# Altium footprint library CONN_TBLOCK_7P62.PcbLib: 76 footprints (part 2 of 5)
Each footprint in its own frame and in the unit in brackets; x right, y up, seen from the top. Pads: shape width x height; smd on the part's side, far side on the other; paste and mask are expansions set on the pad; w line width, h text height; cw(c..) or ccw(c..) is an arc to the next point about the centre after c.
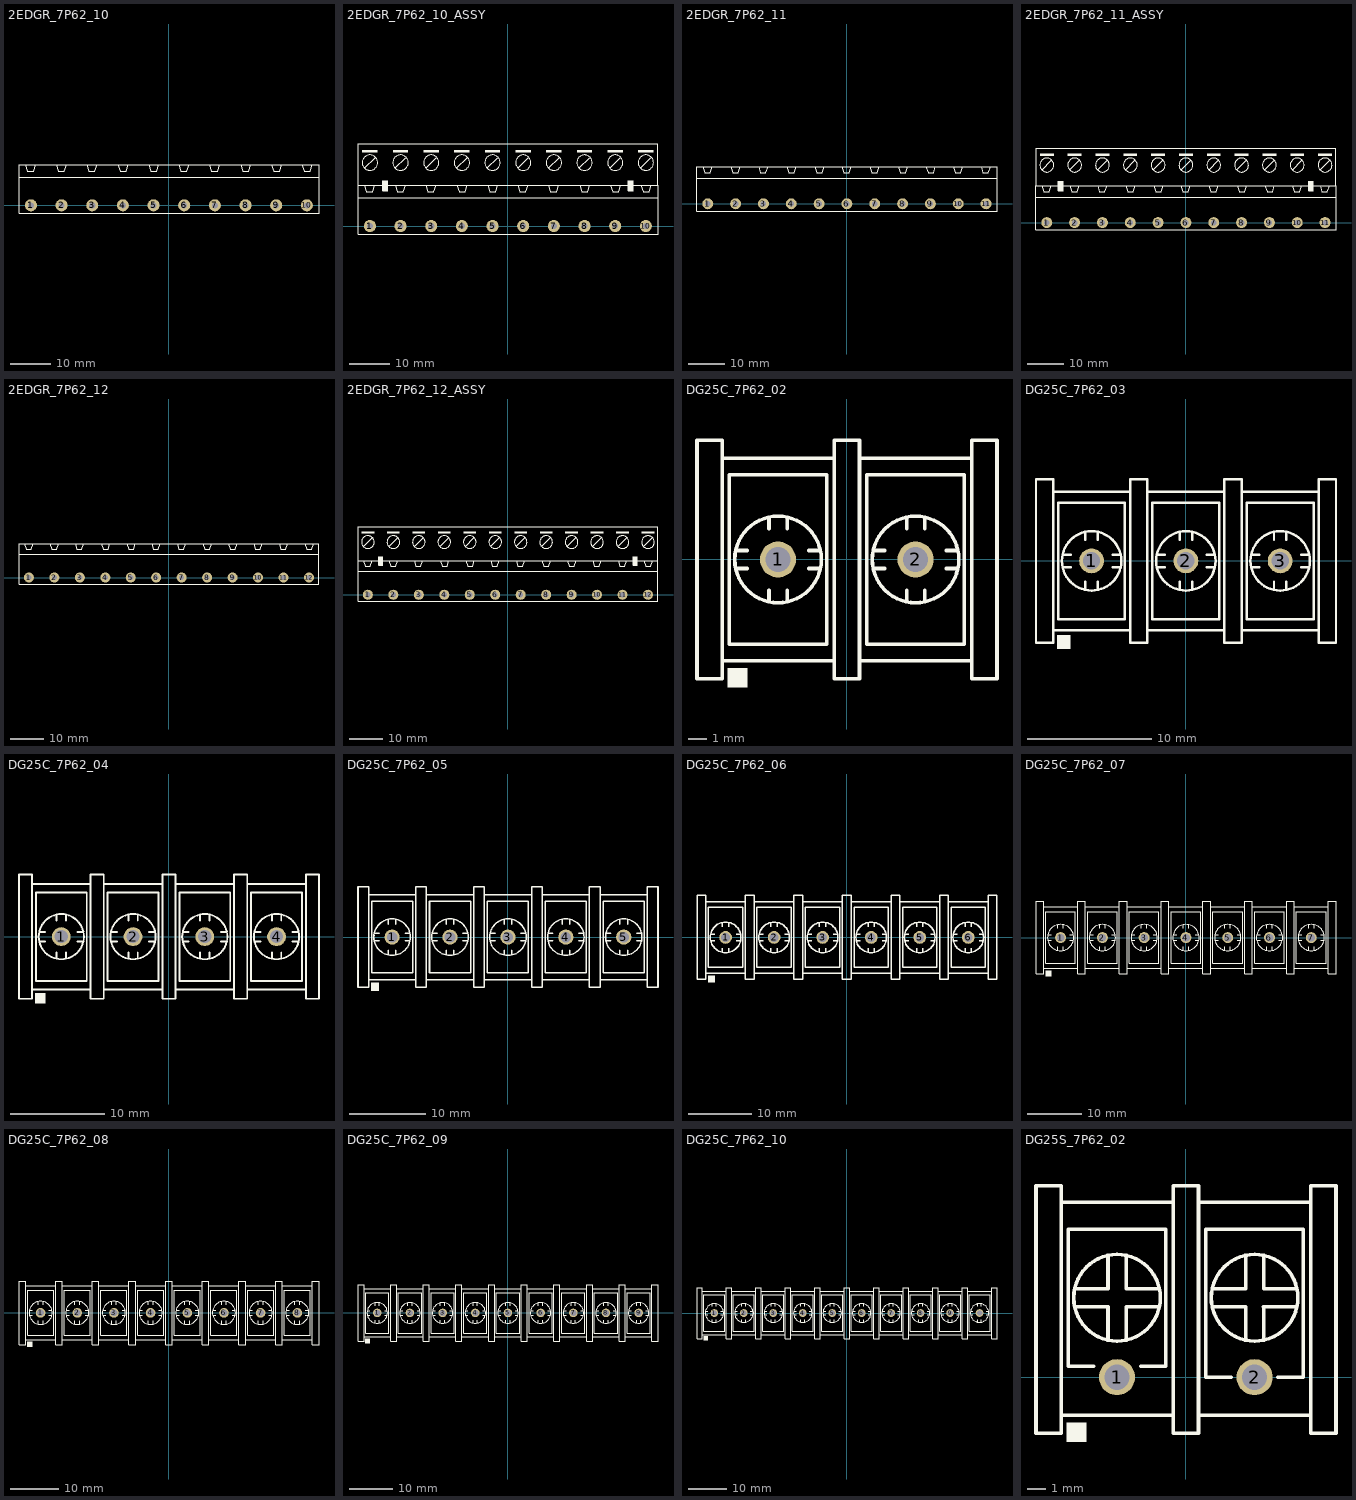
[diagram p1: the footprints below, top view; thin cyan lines are the x and y axes]

## 2EDGR_7P62_10 [mm] "Terminal B Plug. , pitch 7.62mm, H 8.6mm, PHOENIX GMSTB 2,5/x-G-7,62"
pads (10):
  round 3 hole 1.5: 1(-34.29,0) 2(-26.67,0) 3(-19.05,0) 4(-11.43,0) 5(-3.81,0) 6(3.81,0) 7(11.43,0) 8(19.05,0) 9(26.67,0) 10(34.29,0)
Top Overlay:
  lines w0.2: -37.25,7 37.3,7 ; -35.64,10.1 -35.14,8.5 -33.64,8.5 -33.04,10.1 ; -28.02,10.1 -27.52,8.5 -26.02,8.5 -25.42,10.1 ; -20.4,10.1 -19.9,8.5 -18.4,8.5 -17.8,10.1 ; -12.68,10.1 -12.08,8.5 -10.58,8.5 -10.08,10.1 ; -5.06,10.1 -4.46,8.5 -2.96,8.5 -2.46,10.1 ; 2.46,10.1 2.96,8.5 4.46,8.5 5.06,10.1 ; 10.08,10.1 10.58,8.5 12.08,8.5 12.68,10.1 ; 17.8,10.1 18.4,8.5 19.9,8.5 20.4,10.1 ; 25.42,10.1 26.02,8.5 27.52,8.5 28.02,10.1 ; 33.04,10.1 33.64,8.5 35.14,8.5 35.64,10.1 ; -37.25,-2 37.3,-2 37.3,10.1 -37.25,10.1 -37.25,-2
3D body "GMSTB-2-5-10-G-7-62_3D.stp": height 9.1, standoff -3, extent -37.2,-1.9 37.2,10.102

## 2EDGR_7P62_10_ASSY [mm] "Terminal B Plug. , pitch 7.62mm, H 8.6mm, PHOENIX GMSTB 2,5/x-G-7,62"
height 8.6
pads (10):
  round 3 hole 1.5: 1(-34.29,0) 2(-26.67,0) 3(-19.05,0) 4(-11.43,0) 5(-3.81,0) 6(3.81,0) 7(11.43,0) 8(19.05,0) 9(26.67,0) 10(34.29,0)
Top Overlay:
  circle w0.2: c-34.29,15.748 r1.905
  circle w0.2: c-26.67,15.748 r1.905
  circle w0.2: c-19.05,15.748 r1.905
  circle w0.2: c-11.43,15.748 r1.905
  circle w0.2: c-3.81,15.748 r1.905
  circle w0.2: c3.81,15.748 r1.905
  circle w0.2: c11.43,15.748 r1.905
  circle w0.2: c19.05,15.748 r1.905
  circle w0.2: c26.67,15.748 r1.905
  circle w0.2: c34.29,15.748 r1.905
  region: -32.385,18.923 -36.195,18.923 -36.195,18.288 -32.385,18.288
  region: -24.765,18.923 -28.575,18.923 -28.575,18.288 -24.765,18.288
  region: -17.145,18.923 -20.955,18.923 -20.955,18.288 -17.145,18.288
  region: -9.525,18.923 -13.335,18.923 -13.335,18.288 -9.525,18.288
  region: -1.905,18.923 -5.715,18.923 -5.715,18.288 -1.905,18.288
  region: 5.715,18.923 1.905,18.923 1.905,18.288 5.715,18.288
  region: 13.335,18.923 9.525,18.923 9.525,18.288 13.335,18.288
  region: 20.955,18.923 17.145,18.923 17.145,18.288 20.955,18.288
  region: 28.575,18.923 24.765,18.923 24.765,18.288 28.575,18.288
  region: 36.195,18.923 32.385,18.923 32.385,18.288 36.195,18.288
  region: -29.845,11.303 -31.115,11.303 -31.115,8.763 -29.845,8.763
  rectangle: 29.845,8.763 31.115,11.303
  lines w0.2: -37.25,7 37.3,7 ; -37.2,10.1 -37.2,20.4 37.2,20.4 37.2,10.1 ; -35.64,10.1 -35.14,8.5 -33.64,8.5 -33.04,10.1 ; -35.56,14.478 -33.02,17.018 ; -28.02,10.1 -27.52,8.5 -26.02,8.5 -25.42,10.1 ; -27.94,14.478 -25.4,17.018 ; -20.4,10.1 -19.9,8.5 -18.4,8.5 -17.8,10.1 ; -20.32,14.478 -17.78,17.018 ; -12.7,14.478 -10.16,17.018 ; -12.68,10.1 -12.08,8.5 -10.58,8.5 -10.08,10.1 ; -5.08,14.478 -2.54,17.018 ; -5.06,10.1 -4.46,8.5 -2.96,8.5 -2.46,10.1 ; 2.46,10.1 2.96,8.5 4.46,8.5 5.06,10.1 ; 2.54,14.478 5.08,17.018 ; 10.08,10.1 10.58,8.5 12.08,8.5 12.68,10.1 ; 10.16,14.478 12.7,17.018 ; 17.78,14.478 20.32,17.018 ; 17.8,10.1 18.4,8.5 19.9,8.5 20.4,10.1 ; 25.4,14.478 27.94,17.018 ; 25.42,10.1 26.02,8.5 27.52,8.5 28.02,10.1 ; 33.02,14.478 35.56,17.018 ; 33.04,10.1 33.64,8.5 35.14,8.5 35.64,10.1 ; -37.25,-2 -37.25,10.1 37.3,10.1 37.3,-2 -37.25,-2 ; -31.115,8.763 -29.845,8.763 -29.845,11.303 -31.115,11.303 -31.115,8.763 ; 29.845,8.763 29.845,11.303 31.115,11.303 31.115,8.763 29.845,8.763
3D body "GMSTB-2-5-10-ST-7-62_3D.stp": height 15.5, standoff 0.5, extent -37.1,2 37.1,20.2
3D body "GMSTB-2-5-10-G-7-62_3D.stp": height 9.1, standoff -3, extent -37.2,-1.9 37.2,10.102

## 2EDGR_7P62_11 [mm] "Terminal B Plug. , pitch 7.62mm, H 8.6mm, PHOENIX GMSTB 2,5/x-G-7,62"
height 8.6
pads (11):
  round 3 hole 1.5: 1(-38.1,0) 2(-30.48,0) 3(-22.86,0) 4(-15.24,0) 5(-7.62,0) 6(0,0) 7(7.62,0) 8(15.24,0) 9(22.86,0) 10(30.48,0) 11(38.1,0)
Top Overlay:
  lines w0.2: -41.06,7 41.1,7 ; -39.45,10.1 -38.95,8.5 -37.45,8.5 -36.85,10.1 ; -31.83,10.1 -31.33,8.5 -29.83,8.5 -29.23,10.1 ; -24.21,10.1 -23.71,8.5 -22.21,8.5 -21.61,10.1 ; -16.49,10.1 -15.89,8.5 -14.39,8.5 -13.89,10.1 ; -8.87,10.1 -8.27,8.5 -6.77,8.5 -6.27,10.1 ; -1.35,10.1 -0.85,8.5 0.65,8.5 1.25,10.1 ; 6.27,10.1 6.77,8.5 8.27,8.5 8.87,10.1 ; 13.99,10.1 14.59,8.5 16.09,8.5 16.59,10.1 ; 21.61,10.1 22.21,8.5 23.71,8.5 24.21,10.1 ; 29.13,10.1 29.63,8.5 31.13,8.5 31.73,10.1 ; 36.75,10.1 37.25,8.5 38.75,8.5 39.35,10.1 ; -41.06,-2 -41.06,10.1 41.1,10.1 41.1,-2 -41.06,-2
3D body "GMSTB-2-5-11-G-7-62_3D.stp": height 9.1, standoff -3, extent -41.01,-1.9 41.01,10.102

## 2EDGR_7P62_11_ASSY [mm] "Terminal B Plug. , pitch 7.62mm, H 8.6mm, PHOENIX GMSTB 2,5/x-G-7,62"
height 8.6
pads (11):
  round 3 hole 1.5: 1(-38.1,0) 2(-30.48,0) 3(-22.86,0) 4(-15.24,0) 5(-7.62,0) 6(0,0) 7(7.62,0) 8(15.24,0) 9(22.86,0) 10(30.48,0) 11(38.1,0)
Top Overlay:
  circle w0.2: c38.1,15.748 r1.905
  circle w0.2: c30.48,15.748 r1.905
  circle w0.2: c22.86,15.748 r1.905
  circle w0.2: c15.24,15.748 r1.905
  circle w0.2: c7.62,15.748 r1.905
  circle w0.2: c0,15.748 r1.905
  circle w0.2: c-7.62,15.748 r1.905
  circle w0.2: c-15.24,15.748 r1.905
  circle w0.2: c-22.86,15.748 r1.905
  circle w0.2: c-30.48,15.748 r1.905
  circle w0.2: c-38.1,15.748 r1.905
  region: -33.655,11.303 -34.925,11.303 -34.925,8.763 -33.655,8.763
  rectangle: 33.655,8.763 34.925,11.303
  region: 40.005,18.923 36.195,18.923 36.195,18.288 40.005,18.288
  region: 32.385,18.923 28.575,18.923 28.575,18.288 32.385,18.288
  region: 24.765,18.923 20.955,18.923 20.955,18.288 24.765,18.288
  region: 17.145,18.923 13.335,18.923 13.335,18.288 17.145,18.288
  region: 9.525,18.923 5.715,18.923 5.715,18.288 9.525,18.288
  region: 1.905,18.923 -1.905,18.923 -1.905,18.288 1.905,18.288
  region: -5.715,18.923 -9.525,18.923 -9.525,18.288 -5.715,18.288
  region: -13.335,18.923 -17.145,18.923 -17.145,18.288 -13.335,18.288
  region: -20.955,18.923 -24.765,18.923 -24.765,18.288 -20.955,18.288
  region: -28.575,18.923 -32.385,18.923 -32.385,18.288 -28.575,18.288
  region: -36.195,18.923 -40.005,18.923 -40.005,18.288 -36.195,18.288
  lines w0.2: -41.06,7 41.1,7 ; -41,10.1 -41,20.4 41,20.4 41,10.1 ; -39.45,10.1 -38.95,8.5 -37.45,8.5 -36.85,10.1 ; -39.37,14.478 -36.83,17.018 ; -31.83,10.1 -31.33,8.5 -29.83,8.5 -29.23,10.1 ; -31.75,14.478 -29.21,17.018 ; -24.21,10.1 -23.71,8.5 -22.21,8.5 -21.61,10.1 ; -24.13,14.478 -21.59,17.018 ; -16.51,14.478 -13.97,17.018 ; -16.49,10.1 -15.89,8.5 -14.39,8.5 -13.89,10.1 ; -8.89,14.478 -6.35,17.018 ; -8.87,10.1 -8.27,8.5 -6.77,8.5 -6.27,10.1 ; -1.35,10.1 -0.85,8.5 0.65,8.5 1.25,10.1 ; -1.27,14.478 1.27,17.018 ; 6.27,10.1 6.77,8.5 8.27,8.5 8.87,10.1 ; 6.35,14.478 8.89,17.018 ; 13.97,14.478 16.51,17.018 ; 13.99,10.1 14.59,8.5 16.09,8.5 16.59,10.1 ; 21.59,14.478 24.13,17.018 ; 21.61,10.1 22.21,8.5 23.71,8.5 24.21,10.1 ; 29.13,10.1 29.63,8.5 31.13,8.5 31.73,10.1 ; 29.21,14.478 31.75,17.018 ; 36.75,10.1 37.25,8.5 38.75,8.5 39.35,10.1 ; 36.83,14.478 39.37,17.018 ; -41.06,-2 -41.06,10.1 41.1,10.1 41.1,-2 -41.06,-2 ; -34.925,8.763 -34.925,11.303 -33.655,11.303 -33.655,8.763 -34.925,8.763 ; 33.655,8.763 34.925,8.763 34.925,11.303 33.655,11.303 33.655,8.763
3D body "GMSTB-2-5-11-ST-7-62_3D.stp": height 15.5, standoff 0.5, extent -40.91,2 40.91,20.2
3D body "GMSTB-2-5-11-G-7-62_3D.stp": height 9.1, standoff -3, extent -41.01,-1.9 41.01,10.102

## 2EDGR_7P62_12 [mm] "Terminal B Plug. , pitch 7.62mm, H 8.6mm, PHOENIX GMSTB 2,5/x-G-7,62"
height 8.6
pads (12):
  round 3 hole 1.5: 1(-41.91,0) 2(-34.29,0) 3(-26.67,0) 4(-19.05,0) 5(-11.43,0) 6(-3.81,0) 7(3.81,0) 8(11.43,0) 9(19.05,0) 10(26.67,0) 11(34.29,0) 12(41.91,0)
Top Overlay:
  lines w0.2: -44.87,7 44.9,7 ; -43.26,10.1 -42.76,8.5 -41.26,8.5 -40.66,10.1 ; -35.64,10.1 -35.14,8.5 -33.64,8.5 -33.04,10.1 ; -28.02,10.1 -27.52,8.5 -26.02,8.5 -25.42,10.1 ; -20.3,10.1 -19.7,8.5 -18.2,8.5 -17.7,10.1 ; -12.68,10.1 -12.08,8.5 -10.58,8.5 -10.08,10.1 ; -5.16,10.1 -4.66,8.5 -3.16,8.5 -2.56,10.1 ; 2.46,10.1 2.96,8.5 4.46,8.5 5.06,10.1 ; 10.18,10.1 10.78,8.5 12.28,8.5 12.78,10.1 ; 17.8,10.1 18.4,8.5 19.9,8.5 20.4,10.1 ; 25.32,10.1 25.82,8.5 27.32,8.5 27.92,10.1 ; 32.94,10.1 33.44,8.5 34.94,8.5 35.54,10.1 ; 40.66,10.1 41.26,8.5 42.76,8.5 43.26,10.1 ; -44.87,-2 -44.87,10.1 44.9,10.1 44.9,-2 -44.87,-2
3D body "GMSTB-2-5-12-G-7-62_3D.stp": height 9.1, standoff -3, extent -44.82,-1.9 44.82,10.102

## 2EDGR_7P62_12_ASSY [mm] "Terminal B Plug. , pitch 7.62mm, H 8.6mm, PHOENIX GMSTB 2,5/x-G-7,62"
height 8.6
pads (12):
  round 3 hole 1.5: 1(-41.91,0) 2(-34.29,0) 3(-26.67,0) 4(-19.05,0) 5(-11.43,0) 6(-3.81,0) 7(3.81,0) 8(11.43,0) 9(19.05,0) 10(26.67,0) 11(34.29,0) 12(41.91,0)
Top Overlay:
  circle w0.2: c41.91,15.748 r1.905
  circle w0.2: c34.29,15.748 r1.905
  circle w0.2: c26.67,15.748 r1.905
  circle w0.2: c19.05,15.748 r1.905
  circle w0.2: c11.43,15.748 r1.905
  circle w0.2: c3.81,15.748 r1.905
  circle w0.2: c-3.81,15.748 r1.905
  circle w0.2: c-11.43,15.748 r1.905
  circle w0.2: c-19.05,15.748 r1.905
  circle w0.2: c-26.67,15.748 r1.905
  circle w0.2: c-34.29,15.748 r1.905
  circle w0.2: c-41.91,15.748 r1.905
  rectangle: 37.465,8.763 38.735,11.303
  region: -37.465,11.303 -38.735,11.303 -38.735,8.763 -37.465,8.763
  region: 43.815,18.923 40.005,18.923 40.005,18.288 43.815,18.288
  region: 36.195,18.923 32.385,18.923 32.385,18.288 36.195,18.288
  region: 28.575,18.923 24.765,18.923 24.765,18.288 28.575,18.288
  region: 20.955,18.923 17.145,18.923 17.145,18.288 20.955,18.288
  region: 13.335,18.923 9.525,18.923 9.525,18.288 13.335,18.288
  region: 5.715,18.923 1.905,18.923 1.905,18.288 5.715,18.288
  region: -1.905,18.923 -5.715,18.923 -5.715,18.288 -1.905,18.288
  region: -9.525,18.923 -13.335,18.923 -13.335,18.288 -9.525,18.288
  region: -17.145,18.923 -20.955,18.923 -20.955,18.288 -17.145,18.288
  region: -24.765,18.923 -28.575,18.923 -28.575,18.288 -24.765,18.288
  region: -32.385,18.923 -36.195,18.923 -36.195,18.288 -32.385,18.288
  region: -40.005,18.923 -43.815,18.923 -43.815,18.288 -40.005,18.288
  lines w0.2: -44.87,7 44.9,7 ; -43.26,10.1 -42.76,8.5 -41.26,8.5 -40.66,10.1 ; -43.18,14.478 -40.64,17.018 ; -35.64,10.1 -35.14,8.5 -33.64,8.5 -33.04,10.1 ; -35.56,14.478 -33.02,17.018 ; -28.02,10.1 -27.52,8.5 -26.02,8.5 -25.42,10.1 ; -27.94,14.478 -25.4,17.018 ; -20.32,14.478 -17.78,17.018 ; -20.3,10.1 -19.7,8.5 -18.2,8.5 -17.7,10.1 ; -12.7,14.478 -10.16,17.018 ; -12.68,10.1 -12.08,8.5 -10.58,8.5 -10.08,10.1 ; -5.16,10.1 -4.66,8.5 -3.16,8.5 -2.56,10.1 ; -5.08,14.478 -2.54,17.018 ; 2.46,10.1 2.96,8.5 4.46,8.5 5.06,10.1 ; 2.54,14.478 5.08,17.018 ; 10.16,14.478 12.7,17.018 ; 10.18,10.1 10.78,8.5 12.28,8.5 12.78,10.1 ; 17.78,14.478 20.32,17.018 ; 17.8,10.1 18.4,8.5 19.9,8.5 20.4,10.1 ; 25.32,10.1 25.82,8.5 27.32,8.5 27.92,10.1 ; 25.4,14.478 27.94,17.018 ; 32.94,10.1 33.44,8.5 34.94,8.5 35.54,10.1 ; 33.02,14.478 35.56,17.018 ; 40.64,14.478 43.18,17.018 ; 40.66,10.1 41.26,8.5 42.76,8.5 43.26,10.1 ; -44.87,10.1 -44.87,20.4 44.9,20.4 44.9,10.1 ; -44.87,10.1 -44.87,-2 44.9,-2 44.9,10.1 ; -44.87,10.1 44.9,10.1 ; -38.735,8.763 -38.735,11.303 -37.465,11.303 -37.465,8.763 -38.735,8.763 ; 37.465,8.763 38.735,8.763 38.735,11.303 37.465,11.303 37.465,8.763
3D body "GMSTB-2-5-12-G-7-62_3D.stp": height 9.1, standoff -3, extent -44.82,-1.9 44.82,10.102
3D body "GMSTB-2-5-12-ST-7-62_3D.stp": height 15.5, standoff 0.5, extent -44.72,2 44.72,20.2

## DG25C_7P62_02 [mm] "Terminal Screw, pitch 7.62mm, H 14.8mm, DG25C-7.62-xxP"
height 14.8
pads (2):
  round 2 / inner round 2 / far side rect 2.2x3 hole 1.4: 1(-3.81,0)
  round 2 / inner round 2 / far side oval 2.2x3 hole 1.4: 2(3.81,0)
Top Overlay:
  circle w0.2: c3.81,0 r2.4
  circle w0.2: c-3.81,0 r2.4
  rectangle: -6.61,-7.1 -5.51,-6
  lines w0.2: -6.9,-5.6 -0.7,-5.6 ; -6.9,5.6 -0.7,5.6 ; -6.11,-0.5 -5.51,-0.5 ; -6.11,0.5 -5.51,0.5 ; -4.31,-2.3 -4.31,-1.7 ; -4.31,1.7 -4.31,2.3 ; -3.31,-2.3 -3.31,-1.7 ; -3.31,1.7 -3.31,2.3 ; -2.11,-0.5 -1.51,-0.5 ; -2.11,0.5 -1.51,0.5 ; 0.72,-5.6 6.92,-5.6 ; 0.72,5.6 6.92,5.6 ; 1.51,-0.5 2.11,-0.5 ; 1.51,0.5 2.11,0.5 ; 3.31,-2.3 3.31,-1.7 ; 3.31,1.7 3.31,2.3 ; 4.31,-2.3 4.31,-1.7 ; 4.31,1.7 4.31,2.3 ; 5.51,-0.5 6.11,-0.5 ; 5.51,0.5 6.11,0.5 ; -8.3,-6.6 -8.3,6.6 -6.9,6.6 -6.9,-6.6 -8.3,-6.6 ; -6.51,-4.7 -6.51,4.7 -1.11,4.7 -1.11,-4.7 -6.51,-4.7 ; -0.7,-6.6 -0.7,6.6 0.7,6.6 0.7,-6.6 -0.7,-6.6 ; 1.11,-4.7 1.11,4.7 6.51,4.7 6.51,-4.7 1.11,-4.7 ; 6.92,-6.6 6.92,6.6 8.32,6.6 8.32,-6.6 6.92,-6.6
3D body "DG25C-7.62-02P.STEP": height 14.6, standoff -6.67, extent -8.325,-6.5 8.325,6.5

## DG25C_7P62_03 [mm] "Terminal Screw, pitch 7.62mm, H 14.8mm, DG25C-7.62-xxP"
height 14.8
pads (3):
  round 2 / inner round 2 / far side rect 2.2x3 hole 1.4: 1(-7.62,0)
  round 2 / inner round 2 / far side oval 2.2x3 hole 1.4: 2(0,0) 3(7.62,0)
Top Overlay:
  circle w0.2: c7.62,0 r2.4
  circle w0.2: c0,0 r2.4
  circle w0.2: c-7.62,0 r2.4
  rectangle: -10.42,-7.1 -9.32,-6
  lines w0.2: -10.71,-5.6 -4.51,-5.6 ; -10.71,5.6 -4.51,5.6 ; -9.92,-0.5 -9.32,-0.5 ; -9.92,0.5 -9.32,0.5 ; -8.12,-2.3 -8.12,-1.7 ; -8.12,1.7 -8.12,2.3 ; -7.12,-2.3 -7.12,-1.7 ; -7.12,1.7 -7.12,2.3 ; -5.92,-0.5 -5.32,-0.5 ; -5.92,0.5 -5.32,0.5 ; -3.09,-5.6 3.11,-5.6 ; -3.09,5.6 3.11,5.6 ; -2.3,-0.5 -1.7,-0.5 ; -2.3,0.5 -1.7,0.5 ; -0.5,-2.3 -0.5,-1.7 ; -0.5,1.7 -0.5,2.3 ; 0.5,-2.3 0.5,-1.7 ; 0.5,1.7 0.5,2.3 ; 1.7,-0.5 2.3,-0.5 ; 1.7,0.5 2.3,0.5 ; 4.53,-5.6 10.73,-5.6 ; 4.53,5.6 10.73,5.6 ; 5.32,-0.5 5.92,-0.5 ; 5.32,0.5 5.92,0.5 ; 7.12,-2.3 7.12,-1.7 ; 7.12,1.7 7.12,2.3 ; 8.12,-2.3 8.12,-1.7 ; 8.12,1.7 8.12,2.3 ; 9.32,-0.5 9.92,-0.5 ; 9.32,0.5 9.92,0.5 ; -12.11,-6.6 -10.71,-6.6 -10.71,6.6 -12.11,6.6 -12.11,-6.6 ; -10.32,-4.7 -4.92,-4.7 -4.92,4.7 -10.32,4.7 -10.32,-4.7 ; -4.51,-6.6 -3.11,-6.6 -3.11,6.6 -4.51,6.6 -4.51,-6.6 ; -2.7,-4.7 2.7,-4.7 2.7,4.7 -2.7,4.7 -2.7,-4.7 ; 3.11,-6.6 4.51,-6.6 4.51,6.6 3.11,6.6 3.11,-6.6 ; 4.92,-4.7 10.32,-4.7 10.32,4.7 4.92,4.7 4.92,-4.7 ; 10.73,-6.6 12.13,-6.6 12.13,6.6 10.73,6.6 10.73,-6.6
3D body "DG25C-7.62-03P.STEP": height 14.6, standoff -6.67, extent -12.135,-6.5 12.135,6.5

## DG25C_7P62_04 [mm] "Terminal Screw, pitch 7.62mm, H 14.8mm, DG25C-7.62-xxP"
height 14.8
pads (4):
  round 2 / inner round 2 / far side rect 2.2x3 hole 1.4: 1(-11.43,0)
  round 2 / inner round 2 / far side oval 2.2x3 hole 1.4: 2(-3.81,0) 3(3.81,0) 4(11.43,0)
Top Overlay:
  circle w0.2: c11.43,0 r2.4
  circle w0.2: c3.81,0 r2.4
  circle w0.2: c-3.81,0 r2.4
  circle w0.2: c-11.43,0 r2.4
  rectangle: -14.23,-7.1 -13.13,-6
  lines w0.2: -14.52,-5.6 -8.32,-5.6 ; -14.52,5.6 -8.32,5.6 ; -13.73,-0.5 -13.13,-0.5 ; -13.73,0.5 -13.13,0.5 ; -11.93,-2.3 -11.93,-1.7 ; -11.93,1.7 -11.93,2.3 ; -10.93,-2.3 -10.93,-1.7 ; -10.93,1.7 -10.93,2.3 ; -9.73,-0.5 -9.13,-0.5 ; -9.73,0.5 -9.13,0.5 ; -6.9,-5.6 -0.7,-5.6 ; -6.9,5.6 -0.7,5.6 ; -6.11,-0.5 -5.51,-0.5 ; -6.11,0.5 -5.51,0.5 ; -4.31,-2.3 -4.31,-1.7 ; -4.31,1.7 -4.31,2.3 ; -3.31,-2.3 -3.31,-1.7 ; -3.31,1.7 -3.31,2.3 ; -2.11,-0.5 -1.51,-0.5 ; -2.11,0.5 -1.51,0.5 ; 0.72,-5.6 6.92,-5.6 ; 0.72,5.6 6.92,5.6 ; 1.51,-0.5 2.11,-0.5 ; 1.51,0.5 2.11,0.5 ; 3.31,-2.3 3.31,-1.7 ; 3.31,1.7 3.31,2.3 ; 4.31,-2.3 4.31,-1.7 ; 4.31,1.7 4.31,2.3 ; 5.51,-0.5 6.11,-0.5 ; 5.51,0.5 6.11,0.5 ; 8.34,-5.6 14.54,-5.6 ; 8.34,5.6 14.54,5.6 ; 9.13,-0.5 9.73,-0.5 ; 9.13,0.5 9.73,0.5 ; 10.93,-2.3 10.93,-1.7 ; 10.93,1.7 10.93,2.3 ; 11.93,-2.3 11.93,-1.7 ; 11.93,1.7 11.93,2.3 ; 13.13,-0.5 13.73,-0.5 ; 13.13,0.5 13.73,0.5 ; -15.92,-6.6 -14.52,-6.6 -14.52,6.6 -15.92,6.6 -15.92,-6.6 ; -14.13,-4.7 -8.73,-4.7 -8.73,4.7 -14.13,4.7 -14.13,-4.7 ; -8.32,-6.6 -6.92,-6.6 -6.92,6.6 -8.32,6.6 -8.32,-6.6 ; -6.51,-4.7 -1.11,-4.7 -1.11,4.7 -6.51,4.7 -6.51,-4.7 ; -0.7,-6.6 0.7,-6.6 0.7,6.6 -0.7,6.6 -0.7,-6.6 ; 1.11,-4.7 6.51,-4.7 6.51,4.7 1.11,4.7 1.11,-4.7 ; 6.92,-6.6 8.32,-6.6 8.32,6.6 6.92,6.6 6.92,-6.6 ; 8.73,-4.7 14.13,-4.7 14.13,4.7 8.73,4.7 8.73,-4.7 ; 14.54,-6.6 15.94,-6.6 15.94,6.6 14.54,6.6 14.54,-6.6
3D body "DG25C-7.62-04P.STEP": height 14.6, standoff -6.67, extent -15.945,-6.5 15.945,6.5

## DG25C_7P62_05 [mm] "Terminal Screw, pitch 7.62mm, H 14.8mm, DG25C-7.62-xxP"
height 14.8
pads (5):
  round 2 / inner round 2 / far side rect 2.2x3 hole 1.4: 1(-15.24,0)
  round 2 / inner round 2 / far side oval 2.2x3 hole 1.4: 2(-7.62,0) 3(0,0) 4(7.62,0) 5(15.24,0)
Top Overlay:
  circle w0.2: c-15.24,0 r2.4
  circle w0.2: c-7.62,0 r2.4
  circle w0.2: c0,0 r2.4
  circle w0.2: c7.62,0 r2.4
  circle w0.2: c15.24,0 r2.4
  rectangle: -18.04,-7.1 -16.94,-6
  lines w0.2: -18.33,-5.6 -12.13,-5.6 ; -18.33,5.6 -12.13,5.6 ; -17.54,-0.5 -16.94,-0.5 ; -17.54,0.5 -16.94,0.5 ; -15.74,-2.3 -15.74,-1.7 ; -15.74,1.7 -15.74,2.3 ; -14.74,-2.3 -14.74,-1.7 ; -14.74,1.7 -14.74,2.3 ; -13.54,-0.5 -12.94,-0.5 ; -13.54,0.5 -12.94,0.5 ; -10.71,-5.6 -4.51,-5.6 ; -10.71,5.6 -4.51,5.6 ; -9.92,-0.5 -9.32,-0.5 ; -9.92,0.5 -9.32,0.5 ; -8.12,-2.3 -8.12,-1.7 ; -8.12,1.7 -8.12,2.3 ; -7.12,-2.3 -7.12,-1.7 ; -7.12,1.7 -7.12,2.3 ; -5.92,-0.5 -5.32,-0.5 ; -5.92,0.5 -5.32,0.5 ; -3.09,-5.6 3.11,-5.6 ; -3.09,5.6 3.11,5.6 ; -2.3,-0.5 -1.7,-0.5 ; -2.3,0.5 -1.7,0.5 ; -0.5,-2.3 -0.5,-1.7 ; -0.5,1.7 -0.5,2.3 ; 0.5,-2.3 0.5,-1.7 ; 0.5,1.7 0.5,2.3 ; 1.7,-0.5 2.3,-0.5 ; 1.7,0.5 2.3,0.5 ; 4.53,-5.6 10.73,-5.6 ; 4.53,5.6 10.73,5.6 ; 5.32,-0.5 5.92,-0.5 ; 5.32,0.5 5.92,0.5 ; 7.12,-2.3 7.12,-1.7 ; 7.12,1.7 7.12,2.3 ; 8.12,-2.3 8.12,-1.7 ; 8.12,1.7 8.12,2.3 ; 9.32,-0.5 9.92,-0.5 ; 9.32,0.5 9.92,0.5 ; 12.15,-5.6 18.35,-5.6 ; 12.15,5.6 18.35,5.6 ; 12.94,-0.5 13.54,-0.5 ; 12.94,0.5 13.54,0.5 ; 14.74,-2.3 14.74,-1.7 ; 14.74,1.7 14.74,2.3 ; 15.74,-2.3 15.74,-1.7 ; 15.74,1.7 15.74,2.3 ; 16.94,-0.5 17.54,-0.5 ; 16.94,0.5 17.54,0.5 ; -19.73,-6.6 -19.73,6.6 -18.33,6.6 -18.33,-6.6 -19.73,-6.6 ; -17.94,-4.7 -17.94,4.7 -12.54,4.7 -12.54,-4.7 -17.94,-4.7 ; -12.13,-6.6 -12.13,6.6 -10.73,6.6 -10.73,-6.6 -12.13,-6.6 ; -10.32,-4.7 -10.32,4.7 -4.92,4.7 -4.92,-4.7 -10.32,-4.7 ; -4.51,-6.6 -4.51,6.6 -3.11,6.6 -3.11,-6.6 -4.51,-6.6 ; -2.7,-4.7 -2.7,4.7 2.7,4.7 2.7,-4.7 -2.7,-4.7 ; 3.11,-6.6 3.11,6.6 4.51,6.6 4.51,-6.6 3.11,-6.6 ; 4.92,-4.7 4.92,4.7 10.32,4.7 10.32,-4.7 4.92,-4.7 ; 10.73,-6.6 10.73,6.6 12.13,6.6 12.13,-6.6 10.73,-6.6 ; 12.54,-4.7 12.54,4.7 17.94,4.7 17.94,-4.7 12.54,-4.7 ; 18.35,-6.6 18.35,6.6 19.75,6.6 19.75,-6.6 18.35,-6.6
3D body "DG25C-7.62-05P.STEP": height 14.6, standoff -6.67, extent -19.755,-6.5 19.755,6.5

## DG25C_7P62_06 [mm] "Terminal Screw, pitch 7.62mm, H 14.8mm, DG25C-7.62-xxP"
height 14.8
pads (6):
  round 2 / inner round 2 / far side rect 2.2x3 hole 1.4: 1(-19.05,0)
  round 2 / inner round 2 / far side oval 2.2x3 hole 1.4: 2(-11.43,0) 3(-3.81,0) 4(3.81,0) 5(11.43,0) 6(19.05,0)
Top Overlay:
  circle w0.2: c19.05,0 r2.4
  circle w0.2: c11.43,0 r2.4
  circle w0.2: c3.81,0 r2.4
  circle w0.2: c-3.81,0 r2.4
  circle w0.2: c-11.43,0 r2.4
  circle w0.2: c-19.05,0 r2.4
  rectangle: -21.85,-7.1 -20.75,-6
  lines w0.2: -22.14,-5.6 -15.94,-5.6 ; -22.14,5.6 -15.94,5.6 ; -21.35,-0.5 -20.75,-0.5 ; -21.35,0.5 -20.75,0.5 ; -19.55,-2.3 -19.55,-1.7 ; -19.55,1.7 -19.55,2.3 ; -18.55,-2.3 -18.55,-1.7 ; -18.55,1.7 -18.55,2.3 ; -17.35,-0.5 -16.75,-0.5 ; -17.35,0.5 -16.75,0.5 ; -14.52,-5.6 -8.32,-5.6 ; -14.52,5.6 -8.32,5.6 ; -13.73,-0.5 -13.13,-0.5 ; -13.73,0.5 -13.13,0.5 ; -11.93,-2.3 -11.93,-1.7 ; -11.93,1.7 -11.93,2.3 ; -10.93,-2.3 -10.93,-1.7 ; -10.93,1.7 -10.93,2.3 ; -9.73,-0.5 -9.13,-0.5 ; -9.73,0.5 -9.13,0.5 ; -6.9,-5.6 -0.7,-5.6 ; -6.9,5.6 -0.7,5.6 ; -6.11,-0.5 -5.51,-0.5 ; -6.11,0.5 -5.51,0.5 ; -4.31,-2.3 -4.31,-1.7 ; -4.31,1.7 -4.31,2.3 ; -3.31,-2.3 -3.31,-1.7 ; -3.31,1.7 -3.31,2.3 ; -2.11,-0.5 -1.51,-0.5 ; -2.11,0.5 -1.51,0.5 ; 0.72,-5.6 6.92,-5.6 ; 0.72,5.6 6.92,5.6 ; 1.51,-0.5 2.11,-0.5 ; 1.51,0.5 2.11,0.5 ; 3.31,-2.3 3.31,-1.7 ; 3.31,1.7 3.31,2.3 ; 4.31,-2.3 4.31,-1.7 ; 4.31,1.7 4.31,2.3 ; 5.51,-0.5 6.11,-0.5 ; 5.51,0.5 6.11,0.5 ; 8.34,-5.6 14.54,-5.6 ; 8.34,5.6 14.54,5.6 ; 9.13,-0.5 9.73,-0.5 ; 9.13,0.5 9.73,0.5 ; 10.93,-2.3 10.93,-1.7 ; 10.93,1.7 10.93,2.3 ; 11.93,-2.3 11.93,-1.7 ; 11.93,1.7 11.93,2.3 ; 13.13,-0.5 13.73,-0.5 ; 13.13,0.5 13.73,0.5 ; 15.96,-5.6 22.16,-5.6 ; 15.96,5.6 22.16,5.6 ; 16.75,-0.5 17.35,-0.5 ; 16.75,0.5 17.35,0.5 ; 18.55,-2.3 18.55,-1.7 ; 18.55,1.7 18.55,2.3 ; 19.55,-2.3 19.55,-1.7 ; 19.55,1.7 19.55,2.3 ; 20.75,-0.5 21.35,-0.5 ; 20.75,0.5 21.35,0.5 ; -23.54,-6.6 -22.14,-6.6 -22.14,6.6 -23.54,6.6 -23.54,-6.6 ; -21.75,-4.7 -16.35,-4.7 -16.35,4.7 -21.75,4.7 -21.75,-4.7 ; -15.94,-6.6 -14.54,-6.6 -14.54,6.6 -15.94,6.6 -15.94,-6.6 ; -14.13,-4.7 -8.73,-4.7 -8.73,4.7 -14.13,4.7 -14.13,-4.7 ; -8.32,-6.6 -6.92,-6.6 -6.92,6.6 -8.32,6.6 -8.32,-6.6 ; -6.51,-4.7 -1.11,-4.7 -1.11,4.7 -6.51,4.7 -6.51,-4.7 ; -0.7,-6.6 0.7,-6.6 0.7,6.6 -0.7,6.6 -0.7,-6.6 ; 1.11,-4.7 6.51,-4.7 6.51,4.7 1.11,4.7 1.11,-4.7 ; 6.92,-6.6 8.32,-6.6 8.32,6.6 6.92,6.6 6.92,-6.6 ; 8.73,-4.7 14.13,-4.7 14.13,4.7 8.73,4.7 8.73,-4.7 ; 14.54,-6.6 15.94,-6.6 15.94,6.6 14.54,6.6 14.54,-6.6 ; 16.35,-4.7 21.75,-4.7 21.75,4.7 16.35,4.7 16.35,-4.7 ; 22.16,-6.6 23.56,-6.6 23.56,6.6 22.16,6.6 22.16,-6.6
3D body "DG25C-7.62-06P.STEP": height 14.6, standoff -6.67, extent -23.565,-6.5 23.565,6.5

## DG25C_7P62_07 [mm] "Terminal Screw, pitch 7.62mm, H 14.8mm, DG25C-7.62-xxP"
height 14.8
pads (7):
  round 2 / inner round 2 / far side rect 2.2x3 hole 1.4: 1(-22.86,0)
  round 2 / inner round 2 / far side oval 2.2x3 hole 1.4: 2(-15.24,0) 3(-7.62,0) 4(0,0) 5(7.62,0) 6(15.24,0) 7(22.86,0)
Top Overlay:
  circle w0.2: c-22.86,0 r2.4
  circle w0.2: c-15.24,0 r2.4
  circle w0.2: c-7.62,0 r2.4
  circle w0.2: c0,0 r2.4
  circle w0.2: c7.62,0 r2.4
  circle w0.2: c15.24,0 r2.4
  circle w0.2: c22.86,0 r2.4
  rectangle: -25.66,-7.1 -24.56,-6
  lines w0.2: -25.95,-5.6 -19.75,-5.6 ; -25.95,5.6 -19.75,5.6 ; -25.16,-0.5 -24.56,-0.5 ; -25.16,0.5 -24.56,0.5 ; -23.36,-2.3 -23.36,-1.7 ; -23.36,1.7 -23.36,2.3 ; -22.36,-2.3 -22.36,-1.7 ; -22.36,1.7 -22.36,2.3 ; -21.16,-0.5 -20.56,-0.5 ; -21.16,0.5 -20.56,0.5 ; -18.33,-5.6 -12.13,-5.6 ; -18.33,5.6 -12.13,5.6 ; -17.54,-0.5 -16.94,-0.5 ; -17.54,0.5 -16.94,0.5 ; -15.74,-2.3 -15.74,-1.7 ; -15.74,1.7 -15.74,2.3 ; -14.74,-2.3 -14.74,-1.7 ; -14.74,1.7 -14.74,2.3 ; -13.54,-0.5 -12.94,-0.5 ; -13.54,0.5 -12.94,0.5 ; -10.71,-5.6 -4.51,-5.6 ; -10.71,5.6 -4.51,5.6 ; -9.92,-0.5 -9.32,-0.5 ; -9.92,0.5 -9.32,0.5 ; -8.12,-2.3 -8.12,-1.7 ; -8.12,1.7 -8.12,2.3 ; -7.12,-2.3 -7.12,-1.7 ; -7.12,1.7 -7.12,2.3 ; -5.92,-0.5 -5.32,-0.5 ; -5.92,0.5 -5.32,0.5 ; -3.09,-5.6 3.11,-5.6 ; -3.09,5.6 3.11,5.6 ; -2.3,-0.5 -1.7,-0.5 ; -2.3,0.5 -1.7,0.5 ; -0.5,-2.3 -0.5,-1.7 ; -0.5,1.7 -0.5,2.3 ; 0.5,-2.3 0.5,-1.7 ; 0.5,1.7 0.5,2.3 ; 1.7,-0.5 2.3,-0.5 ; 1.7,0.5 2.3,0.5 ; 4.53,-5.6 10.73,-5.6 ; 4.53,5.6 10.73,5.6 ; 5.32,-0.5 5.92,-0.5 ; 5.32,0.5 5.92,0.5 ; 7.12,-2.3 7.12,-1.7 ; 7.12,1.7 7.12,2.3 ; 8.12,-2.3 8.12,-1.7 ; 8.12,1.7 8.12,2.3 ; 9.32,-0.5 9.92,-0.5 ; 9.32,0.5 9.92,0.5 ; 12.15,-5.6 18.35,-5.6 ; 12.15,5.6 18.35,5.6 ; 12.94,-0.5 13.54,-0.5 ; 12.94,0.5 13.54,0.5 ; 14.74,-2.3 14.74,-1.7 ; 14.74,1.7 14.74,2.3 ; 15.74,-2.3 15.74,-1.7 ; 15.74,1.7 15.74,2.3 ; 16.94,-0.5 17.54,-0.5 ; 16.94,0.5 17.54,0.5 ; 19.77,-5.6 25.97,-5.6 ; 19.77,5.6 25.97,5.6 ; 20.56,-0.5 21.16,-0.5 ; 20.56,0.5 21.16,0.5 ; 22.36,-2.3 22.36,-1.7 ; 22.36,1.7 22.36,2.3 ; 23.36,-2.3 23.36,-1.7 ; 23.36,1.7 23.36,2.3 ; 24.56,-0.5 25.16,-0.5 ; 24.56,0.5 25.16,0.5 ; -27.35,-6.6 -27.35,6.6 -25.95,6.6 -25.95,-6.6 -27.35,-6.6 ; -25.56,-4.7 -25.56,4.7 -20.16,4.7 -20.16,-4.7 -25.56,-4.7 ; -19.75,-6.6 -19.75,6.6 -18.35,6.6 -18.35,-6.6 -19.75,-6.6 ; -17.94,-4.7 -17.94,4.7 -12.54,4.7 -12.54,-4.7 -17.94,-4.7 ; -12.13,-6.6 -12.13,6.6 -10.73,6.6 -10.73,-6.6 -12.13,-6.6 ; -10.32,-4.7 -10.32,4.7 -4.92,4.7 -4.92,-4.7 -10.32,-4.7 ; -4.51,-6.6 -4.51,6.6 -3.11,6.6 -3.11,-6.6 -4.51,-6.6 ; -2.7,-4.7 -2.7,4.7 2.7,4.7 2.7,-4.7 -2.7,-4.7 ; 3.11,-6.6 3.11,6.6 4.51,6.6 4.51,-6.6 3.11,-6.6 ; 4.92,-4.7 4.92,4.7 10.32,4.7 10.32,-4.7 4.92,-4.7 ; 10.73,-6.6 10.73,6.6 12.13,6.6 12.13,-6.6 10.73,-6.6 ; 12.54,-4.7 12.54,4.7 17.94,4.7 17.94,-4.7 12.54,-4.7 ; 18.35,-6.6 18.35,6.6 19.75,6.6 19.75,-6.6 18.35,-6.6 ; 20.16,-4.7 20.16,4.7 25.56,4.7 25.56,-4.7 20.16,-4.7 ; 25.97,-6.6 25.97,6.6 27.37,6.6 27.37,-6.6 25.97,-6.6
3D body "DG25C-7.62-07P.STEP": height 14.6, standoff -6.67, extent -27.375,-6.5 27.505,6.5

## DG25C_7P62_08 [mm] "Terminal Screw, pitch 7.62mm, H 14.8mm, DG25C-7.62-xxP"
height 14.8
pads (8):
  round 2 / inner round 2 / far side rect 2.2x3 hole 1.4: 1(-26.67,0)
  round 2 / inner round 2 / far side oval 2.2x3 hole 1.4: 2(-19.05,0) 3(-11.43,0) 4(-3.81,0) 5(3.81,0) 6(11.43,0) 7(19.05,0) 8(26.67,0)
Top Overlay:
  drawing of 157 lines, arcs and shapes, not listed
3D body "DG25C-7.62-08P.STEP": height 14.6, standoff -6.67, extent -31.185,-6.5 31.315,6.5

## DG25C_7P62_09 [mm] "Terminal Screw, pitch 7.62mm, H 14.8mm, DG25C-7.62-xxP"
height 14.8
pads (9):
  round 2 / inner round 2 / far side rect 2.2x3 hole 1.4: 1(-30.48,0)
  round 2 / inner round 2 / far side oval 2.2x3 hole 1.4: 2(-22.86,0) 3(-15.24,0) 4(-7.62,0) 5(0,0) 6(7.62,0) 7(15.24,0) 8(22.86,0) 9(30.48,0)
Top Overlay:
  drawing of 176 lines, arcs and shapes, not listed
3D body "DG25C-7.62-03P.STEP": height 14.6, standoff -6.67, extent -34.995,-6.5 -10.725,6.5
3D body "DG25C-7.62-03P.STEP": height 14.6, standoff -6.67, extent -12.135,-6.5 12.135,6.5
3D body "DG25C-7.62-03P.STEP": height 14.6, standoff -6.67, extent 10.725,-6.5 34.995,6.5

## DG25C_7P62_10 [mm] "Terminal Screw, pitch 7.62mm, H 14.8mm, DG25C-7.62-xxP"
height 14.8
pads (10):
  round 2 / inner round 2 / far side rect 2.2x3 hole 1.4: 1(-34.29,0)
  round 2 / inner round 2 / far side oval 2.2x3 hole 1.4: 2(-26.67,0) 3(-19.05,0) 4(-11.43,0) 5(-3.81,0) 6(3.81,0) 7(11.43,0) 8(19.05,0) 9(26.67,0) 10(34.29,0)
Top Overlay:
  drawing of 195 lines, arcs and shapes, not listed
3D body "DG25C-7.62-08P.STEP": height 14.6, standoff -6.67, extent -23.565,-6.5 38.935,6.5
3D body "DG25C-7.62-02P.STEP": height 14.6, standoff -6.67, extent -38.805,-6.5 -22.155,6.5

## DG25S_7P62_02 [mm] "Terminal Screw, pitch 7.62mm, H 14.8mm, DG25C-7.62-xxP"
height 14.8
pads (2):
  round 2 / inner round 2 / far side rect 2.2x3 hole 1.4: 1(-3.81,0)
  round 2 / inner round 2 / far side oval 2.2x3 hole 1.4: 2(3.81,0)
Top Overlay:
  circle w0.2: c3.81,4.4 r2.4
  circle w0.2: c-3.81,4.4 r2.4
  rectangle: -6.61,-3.6 -5.51,-2.5
  lines w0.2: -6.9,-2.1 -0.7,-2.1 ; -6.9,9.7 -0.7,9.7 ; -6.11,3.9 -4.3,3.9 ; -6.11,4.9 -4.31,4.9 -4.31,6.7 ; -5.1,0.6 -6.51,0.6 -6.51,8.2 -1.11,8.2 -1.11,0.6 -2.5,0.6 ; -4.31,2.1 -4.31,3.9 ; -3.31,2.1 -3.31,3.9 ; -3.31,6.7 -3.31,4.9 -1.51,4.9 ; -3.3,3.9 -1.51,3.9 ; 0.72,-2.1 6.92,-2.1 ; 0.72,9.7 6.92,9.7 ; 1.51,3.9 3.3,3.9 ; 1.51,4.9 3.31,4.9 3.31,6.7 ; 2.5,0 1.11,0 1.11,8.2 6.51,8.2 6.51,0 5.1,0 ; 3.31,2.1 3.31,3.9 ; 4.3,3.9 6.11,3.9 ; 4.31,2.1 4.31,3.9 ; 4.31,6.7 4.31,4.9 6.11,4.9 ; -8.3,-3.1 -6.9,-3.1 -6.9,10.6 -8.3,10.6 -8.3,-3.1 ; -0.7,-3.1 0.7,-3.1 0.7,10.6 -0.7,10.6 -0.7,-3.1 ; 6.92,-3.1 8.32,-3.1 8.32,10.6 6.92,10.6 6.92,-3.1
3D body "DG25S-B-02P.stp": height 14.8, standoff -5.4, extent -8.37,-3 8.37,10.5